# Altium footprint library MergenElektronik_Sensors_Gyroscope-Accelerometer-Magnetometer.PcbLib: 1 footprints
Each footprint in its own frame and in the unit in brackets; x right, y up, seen from the top. Pads: shape width x height; smd on the part's side, far side on the other; paste and mask are expansions set on the pad; w line width, h text height; cw(c..) or ccw(c..) is an arc to the next point about the centre after c.
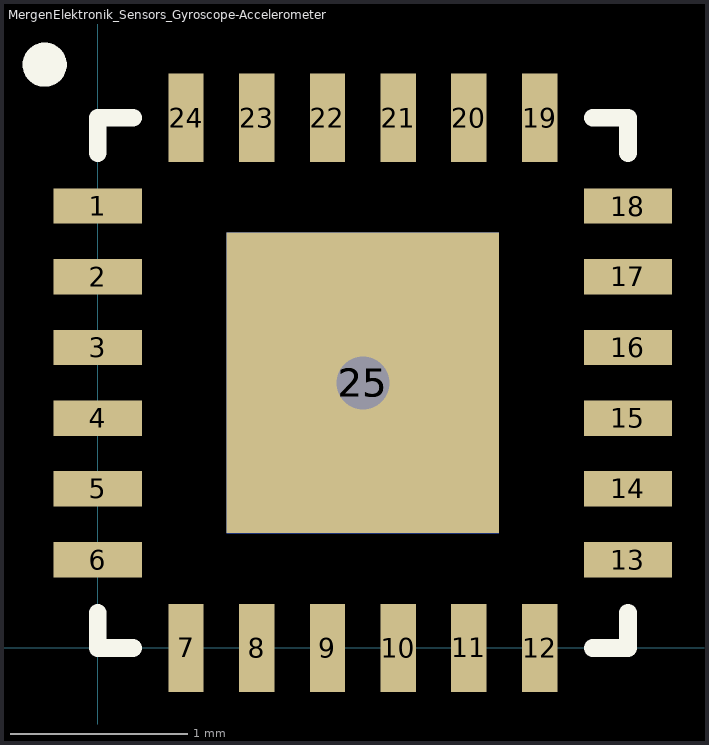
[diagram p0: the footprint, top view; thin cyan lines are the x and y axes]

## MergenElektronik_Sensors_Gyroscope-Accelerometer-Magnetometer_24-QFN [mm] "24-QFN"
pads (27):
  rect 0.5x0.2 smd: 1(0,2.5) 2(0,2.1) 3(0,1.7) 4(0,1.3) 5(0,0.9) 6(0,0.5) 13(3,0.5) 14(3,0.9) 15(3,1.3) 16(3,1.7) 17(3,2.1) 18(3,2.5)
  rect 0.2x0.5 smd: 7(0.5,0) 8(0.9,0) 9(1.3,0) 10(1.7,0) 11(2.1,0) 12(2.5,0) 19(2.5,3) 20(2.1,3) 21(1.7,3) 22(1.3,3) 23(0.9,3) 24(0.5,3)
  rect 1.54x1.7 smd paste+0: 25(1.5,1.5)
  rect 1.54x1.7 smd far side: 25(1.5,1.5)
  round 0.5 hole 0.3 paste-2539.97: 25(1.5,1.5)
Top Overlay:
  circle w0.15: c-0.3,3.3 r0.05
  lines w0.1: 0,0.2 0,0 0.2,0 ; 0,2.8 0,3 0.2,3 ; 2.8,0 3,0 3,0.2 ; 2.8,3 3,3 3,2.8
3D body "ICM-20948.step": height 1, standoff -0.05, extent 0,0 3,3